# Altium schematic symbol library VSOP38338.SchLib: 1 symbol
Pins are listed as number, name and electrical type; pins without a type are passive.

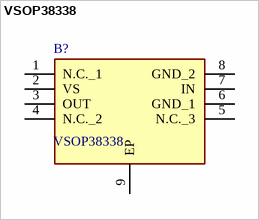
[diagram p0: symbol VSOP38338]

## VSOP38338
designator B?
Vishay VSOP38338, 38kHz IR Receiver, 2.5V - 5V, SMT, 2 x 2 x 0.76mm; Geometry.Height: 0.81mm; Mouser Part Number: 782-VSOP38338; Mouser Price/Stock: https://www.mouser.co.uk/ProductDetail/Vishay-Semiconductors/VSOP38338?qs=lNOV0pHJI3hgEVpw1emspw%3D%3D; Manufacturer_Name: Vishay; Manufacturer_Part_Number: VSOP38338; Datasheet Link: https://datasheet.datasheetarchive.com/originals/distributors/Datasheets-DGA1/137501.pdf
footprint SON50P200X200X81-9N-D
pins: 1 N.C._1, 2 VS, 3 OUT, 4 N.C._2, 5 N.C._3, 6 GND_1, 7 IN, 8 GND_2, 9 EP